# Altium footprint library ARCOM_Special.PcbLib: 37 footprints (part 3 of 3)
Each footprint in its own frame and in the unit in brackets; x right, y up, seen from the top. Pads: shape width x height; smd on the part's side, far side on the other; paste and mask are expansions set on the pad; w line width, h text height; cw(c..) or ccw(c..) is an arc to the next point about the centre after c.
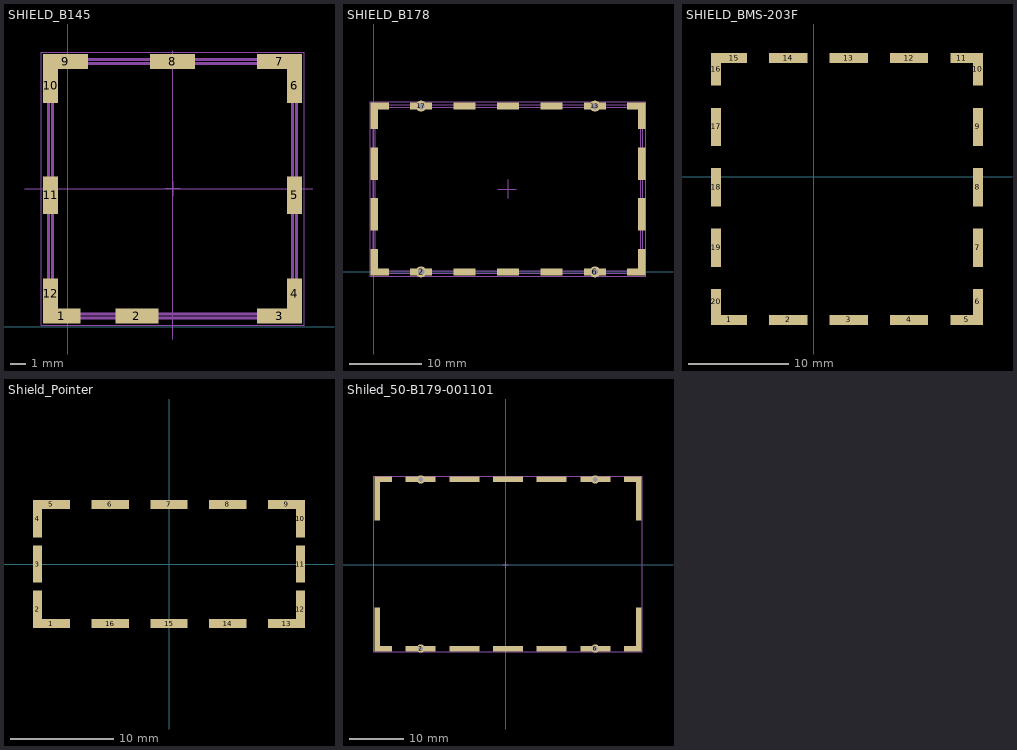
[diagram p2: the footprints below, top view; thin cyan lines are the x and y axes]

## SHIELD_B145 [mm]
pads (12):
  rect 2.5x1 smd: 1(-0.412,0.72)
  rect 2.85x1 smd: 2(4.588,0.72)
  rect 3x1 smd: 3(14.088,0.72) 7(14.088,17.67) 8(6.963,17.67) 9(-0.162,17.67)
  rect 1x2 smd: 4(15.088,2.22) 12(-1.162,2.22)
  rect 1x2.5 smd: 5(15.088,8.775) 11(-1.162,8.775)
  rect 1x2.25 smd: 6(15.088,16.045) 10(-1.162,16.045)
Mechanical 2:
  lines w0.01: -2.887,9.195 16.313,9.195 ; 6.963,-0.805 6.963,18.395
  lines w0.2: -1.287,0.595 -1.287,17.795 15.213,17.795 15.213,0.595 -1.287,0.595 ; -1.037,0.845 -1.037,17.545 14.963,17.545 14.963,0.845 -1.037,0.845
M15 Top Assy:
  lines w0.05: -1.778,0.127 -1.778,18.288 15.723,18.288 15.723,0.127 -1.778,0.127
  lines w0.1: 6.46,9.195 7.46,9.195 ; 6.96,8.695 6.96,9.695
3D body: height 3.9, standoff 0, extent -1.499,0.508 15.367,17.907

## SHIELD_B178 [mm]
pads (26):
  rect 1.5x1 smd: 1(1.342,-0.02) 7(35.742,-0.02) 12(35.742,22.88) 18(1.342,22.88)
  round 1.5 hole 0.9: 2(6.542,-0.02) 6(30.542,-0.02) 13(30.542,22.88) 17(6.542,22.88)
  rect 3x1 smd: 2(6.542,-0.02) 3(12.542,-0.02) 4(18.542,-0.02) 5(24.542,-0.02) 6(30.542,-0.02) 13(30.542,22.88) 14(24.542,22.88) 15(18.542,22.88) 16(12.542,22.88) 17(6.542,22.88)
  rect 1x3.7 smd: 8(36.992,1.33) 11(36.992,21.53) 19(0.092,21.53) 22(0.092,1.33)
  rect 1x4.5 smd: 9(36.992,7.93) 10(36.992,14.93) 20(0.092,14.93) 21(0.092,7.93)
Mechanical 2:
  lines w0.01: 17.156,11.43 19.685,11.43 ; 18.542,10.165 18.542,12.706 ; -0.058,-0.17 -0.058,23.03 37.142,23.03 37.142,-0.17 -0.058,-0.17 ; 0.242,0.13 0.242,22.73 36.842,22.73 36.842,0.13 0.242,0.13
M15 Top Assy:
  lines w0.05: -0.483,-0.61 -0.483,23.47 37.567,23.47 37.567,-0.61 -0.483,-0.61
  lines w0.1: 18.042,11.43 19.042,11.43 ; 18.542,10.93 18.542,11.93
3D body: height 3.9, standoff 0, extent -0.229,-0.127 37.236,23.038

## SHIELD_BMS-203F [mm]
pads (20):
  rect 3.57x1 smd: 1(-8.416,-14.229)
  rect 3.8x1 smd: 2(-2.531,-14.229) 3(3.469,-14.229) 4(9.469,-14.229) 12(9.469,11.781) 13(3.469,11.781) 14(-2.531,11.781)
  rect 3.24x1 smd: 5(15.189,-14.229)
  rect 1x2.57 smd: 6(16.309,-12.444) 20(-9.701,-12.444)
  rect 1x3.8 smd: 7(16.309,-7.059) 8(16.309,-1.059) 9(16.309,4.941) 17(-9.701,4.941) 18(-9.701,-1.059) 19(-9.701,-7.059)
  rect 1x3.24 smd: 10(16.309,10.661) 16(-9.701,10.661)
  rect 2.24x1 smd: 11(14.689,11.781)
  rect 2.57x1 smd: 15(-7.916,11.781)

## Shield_Pointer [mm]
pads (16):
  rect 3.6x0.9 smd: 1(-11.379,-5.766) 5(-11.379,5.766) 6(-5.69,5.766) 7(0,5.766) 8(5.69,5.766) 9(11.379,5.766) 13(11.379,-5.766) 14(5.69,-5.766) 15(0,-5.766) 16(-5.69,-5.766)
  rect 0.9x3.6 smd: 2(-12.725,-4.369) 3(-12.725,0) 4(-12.725,4.369) 10(12.725,4.369) 11(12.725,0) 12(12.725,-4.369)

## Shiled_50-B179-001101 [mm]
height 4.2
pads (22):
  rect 3.25x1 smd: 1(-22.418,-15.322) 7(23.332,-15.322) 10(23.332,15.678) 16(-22.418,15.678)
  rect 5.5x1 smd: 2(-15.543,-15.322) 3(-7.543,-15.322) 4(0.457,-15.322) 5(8.457,-15.322) 6(16.457,-15.322) 11(16.457,15.678) 12(8.457,15.678) 13(0.457,15.678) 14(-7.543,15.678) 15(-15.543,15.678)
  round 1.5 hole 0.9: 2(-15.543,-15.322) 6(16.457,-15.322) 11(16.457,15.678) 15(-15.543,15.678)
  rect 1x7 smd: 8(24.457,-11.322) 9(24.457,11.678) 17(-23.543,11.678) 18(-23.543,-11.322)
M15 Top Assy:
  lines w0.05: -24.155,-15.926 25.07,-15.926 25.07,16.307 -24.155,16.307 -24.155,-15.926
  lines w0.1: -0.5,0 0.5,0 ; 0,-0.5 0,0.5
3D body: height 4.2, standoff 0, extent -24.079,-15.875 25.019,16.231